# EAGLE library part SN74LS145DR (library FSAE Electric)
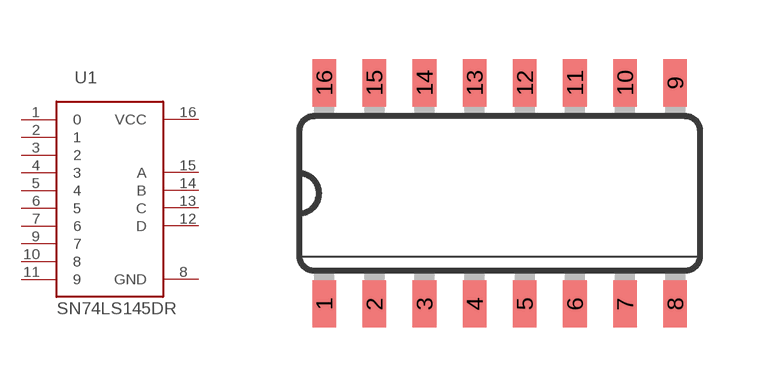
[diagram p101: symbol with the pads of SO-16; footprint SO-16]

Designator prefix U1

## SN74LS145DR  [SO-16]
1  0
2  1
3  2
4  3
5  4
6  5
7  6
8  GND
9  7
10  8
11  9
12  D
13  C
14  B
15  A
16  VCC

## Footprint SO-16 (pad centres in mm)
smd 0.6 x 1.2: 1 -4.445,-2.8; 2 -3.175,-2.8; 3 -1.905,-2.8; 4 -0.635,-2.8; 5 0.635,-2.8; 6 1.905,-2.8; 7 3.175,-2.8; 8 4.445,-2.8; 9 4.445,2.8; 10 3.175,2.8; 11 1.905,2.8; 12 0.635,2.8; 13 -0.635,2.8; 14 -1.905,2.8; 15 -3.175,2.8; 16 -4.445,2.8